# Altium integrated library Austin_Components.IntLib: 15 symbols
Pins are listed as number, name and electrical type; pins without a type are passive.

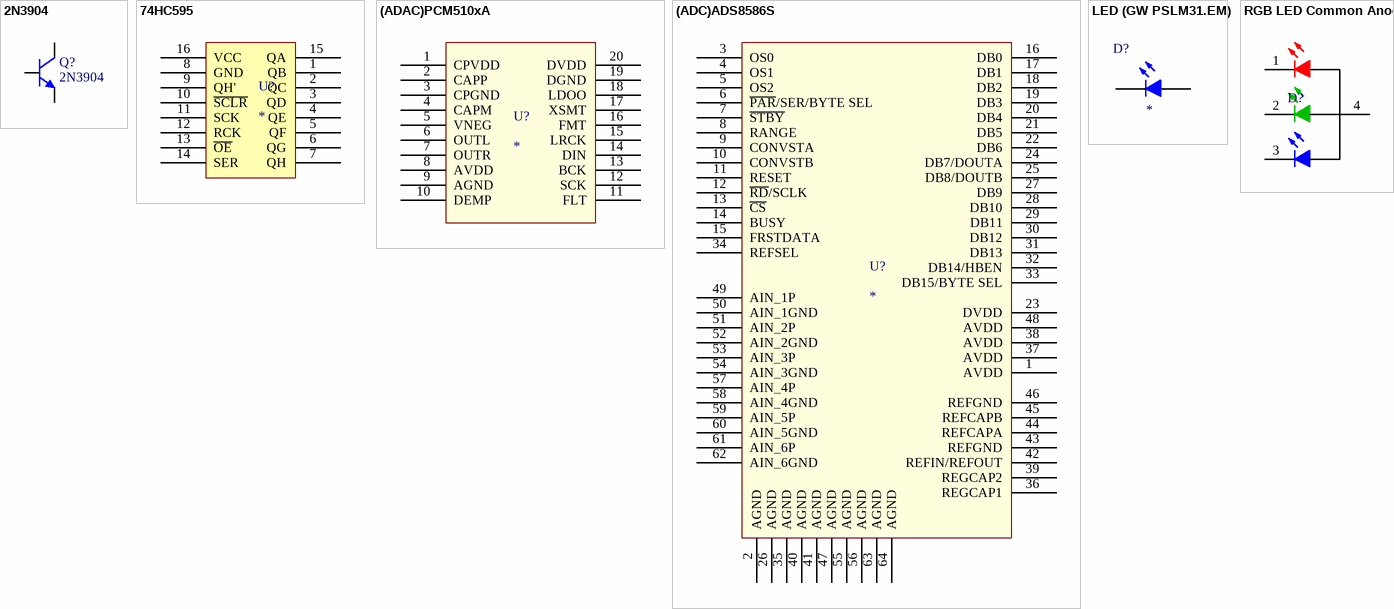
[diagram p0: symbols 2N3904 to RGB LED Common Anode]

## 2N3904
designator Q?
NPN General Purpose Amplifier; Published: 8-Jun-2000; LatestRevisionDate: 15-Jan-2003; LatestRevisionNote: PCB Footprint 'BCY-W3/D4.7' replaced; DatasheetVersion: 1997; PackageVersion: Sep-1998; PackageReference: TO-92A; Publisher: Altium Limited; PackageDescription: TO, Flat Index; 3 In-Line, Axial Leads; Body Dia. 4.5mm; Leads 0.51 x 0.48 mm (max); ComponentLink1Description: Manufacturer Link; ComponentLink1URL: http://www.fairchildsemi.com/; ComponentLink2Description: Datasheet; ComponentLink2URL: http://www.fairchildsemi.com/ds/2N%2F2N3904.pdf
footprint TO-92A (TO, Flat Index; 3 In-Line, Axial Leads; Body Dia. 4.5mm; Leads 0.51 x 0.48 mm (max))
simulation model 2N3904 (NPN)
signal-integrity model 2N3904
footprint SOT95P245X110-3N (SOT23, 3-Leads, Body 2.90x2.45mm, Pitch 0.95mm, IPC Medium Density)
pins: 1 B, 2 E, 3 C

## 74HC595
designator U?
footprint SOIC127P600X175-16N (SOIC, 16-Leads, Body 9.90x3.90mm, Pitch 1.27mm, IPC Medium Density)
pins: 1 QB, 2 QC, 3 QD, 4 QE, 5 QF, 6 QG, 7 QH, 8 GND, 9 QH', 10 ~{SCLR}, 11 SCK, 12 RCK, 13 ~{OE}, 14 SER, 15 QA, 16 VCC

## (ADAC)PCM510xA
designator U?
footprint 20TSSOP
pins: 1 CPVDD, 2 CAPP, 3 CPGND, 4 CAPM, 5 VNEG, 6 OUTL, 7 OUTR, 8 AVDD, 9 AGND, 10 DEMP, 11 FLT, 12 SCK, 13 BCK, 14 DIN, 15 LRCK, 16 FMT, 17 XSMT, 18 LDOO, 19 DGND, 20 DVDD

## (ADC)ADS8586S
designator U?
footprint 64QFP
pins: 1 AVDD, 2 AGND, 3 OS0, 4 OS1, 5 OS2, 6 ~{PAR}/SER/BYTE SEL, 7 ~{STBY}, 8 RANGE, 9 CONVSTA, 10 CONVSTB, 11 RESET, 12 ~{RD}/SCLK, 13 ~{CS}, 14 BUSY, 15 FRSTDATA, 16 DB0, 17 DB1, 18 DB2, 19 DB3, 20 DB4, 21 DB5, 22 DB6, 23 DVDD, 24 DB7/DOUTA, 25 DB8/DOUTB, 26 AGND, 27 DB9, 28 DB10, 29 DB11, 30 DB12, 31 DB13, 32 DB14/HBEN, 33 DB15/BYTE SEL, 34 REFSEL, 35 AGND, 36 REGCAP1, 37 AVDD, 38 AVDD, 39 REGCAP2, 40 AGND, 41 AGND, 42 REFIN/REFOUT, 43 REFGND, 44 REFCAPA, 45 REFCAPB, 46 REFGND, 47 AGND, 48 AVDD, 49 AIN_1P, 50 AIN_1GND, 51 AIN_2P, 52 AIN_2GND, 53 AIN_3P, 54 AIN_3GND, 55 AGND, 56 AGND, 57 AIN_4P, 58 AIN_4GND, 59 AIN_5P, 60 AIN_5GND, 61 AIN_6P, 62 AIN_6GND, 63 AGND, 64 AGND

## LED (GW PSLM31.EM)
designator D?
DURIS s 5 White OSRAM; Label: *
footprint LED 1212 GW PSLM32.EM (LED DURIS S5 COOL WHT 6500K SMD)
pins: 1 K, 2 A

## RGB LED Common Anode
designator D?  (value not drawn)
footprint LED LTST-C19HE1WT
pins: 1 K, 2 K, 3 K, 4 A


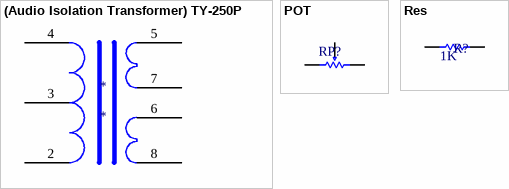
[diagram p1: symbols (Audio Isolation Transformer) TY-250P to Res]

## (Audio Isolation Transformer) TY-250P
designator *
footprint TY-250P
pins: 2, 3, 4, 5, 6, 7, 8

## POT
designator RP?, comment Resistor  (value not drawn)
footprint POT-Inline
pins: 1, 2, 3
1 alternate drawing of the same symbol

## Res
designator R?  value 1K
Resistor; Published: 8-Jun-2000; LatestRevisionDate: 17-Jul-2002; LatestRevisionNote: Re-released for DXP Platform.; PackageReference: AXIAL-0.3; Publisher: Altium Limited; PackageDescription: Axial Device, Thru-Hole; 2 Leads; 0.3 in Pin Spacing
footprint AXIAL-0.3 (Axial Device, Thru-Hole; 2 Leads; 0.3 in Pin Spacing)
simulation model RESISTOR (Resistor)
signal-integrity model Res
footprint 0805 MMC
pins: 1, 2


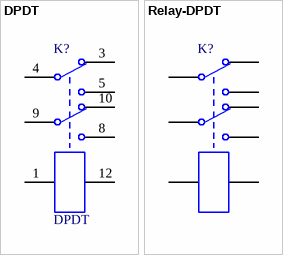
[diagram p2: symbols DPDT to Relay-DPDT]

## DPDT
designator K?
Dual-Pole Dual-Throw Relay
footprint EC2NU
pins: 1, 3, 4, 5, 8, 9, 10, 12

## Relay-DPDT
designator K?
Dual-Pole Dual-Throw Relay; Published: 24-Mar-1999; LatestRevisionDate: 17-Jul-2002; LatestRevisionNote: Re-released for DXP Platform.; PackageReference: DIP-P8; Publisher: Altium Limited; PackageDescription: Relay; 8 Leads
footprint EC2NU
pins: 1, 3, 4, 5, 8, 9, 10, 12


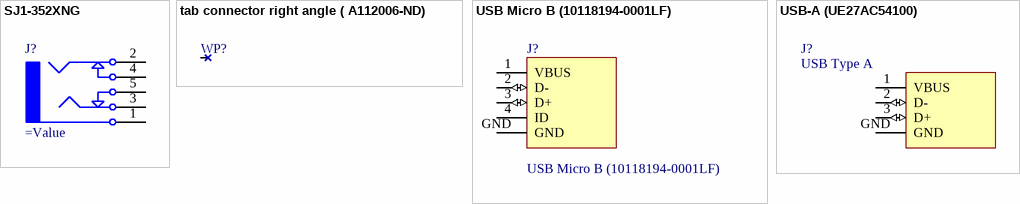
[diagram p3: symbols SJ1-352XNG to USB-A (UE27AC54100)]

## SJ1-352XNG
designator J?
3.5mm TRS Phone Jack With Switches
footprint 3.5 audio barrel jack (SJ1-352XNG)
pins: 1, 2, 3, 4, 5

## tab connector right angle ( A112006-ND)
designator WP?, comment Wire Pad  (value not drawn)
Wire Pad, 1 Pin, Through Hole, Vertical
footprint TAB connector right angle
pins: 0

## USB Micro B (10118194-0001LF)
designator J?
Female Micro USB Type B
footprint USB-MICRO-B (10118194-0001LF) (Round Holes; USB - micro B USB 2.0 Receptacle Connector 5 Position Surface Mount, Right Angle, Horizontal)
pins: 1 VBUS (power), 2 D- (io), 3 D+ (io), 4 ID, GND (power)

## USB-A (UE27AC54100)
designator J?, comment USB Type A
Female USB Type A Connector
footprint USB-A-ThroughHole
pins: 1 VBUS (power), 2 D- (io), 3 D+ (io), GND (power)